# Altium integrated library TI Interface Touch Screen Controller.IntLib: 72 symbols (part 2 of 2)
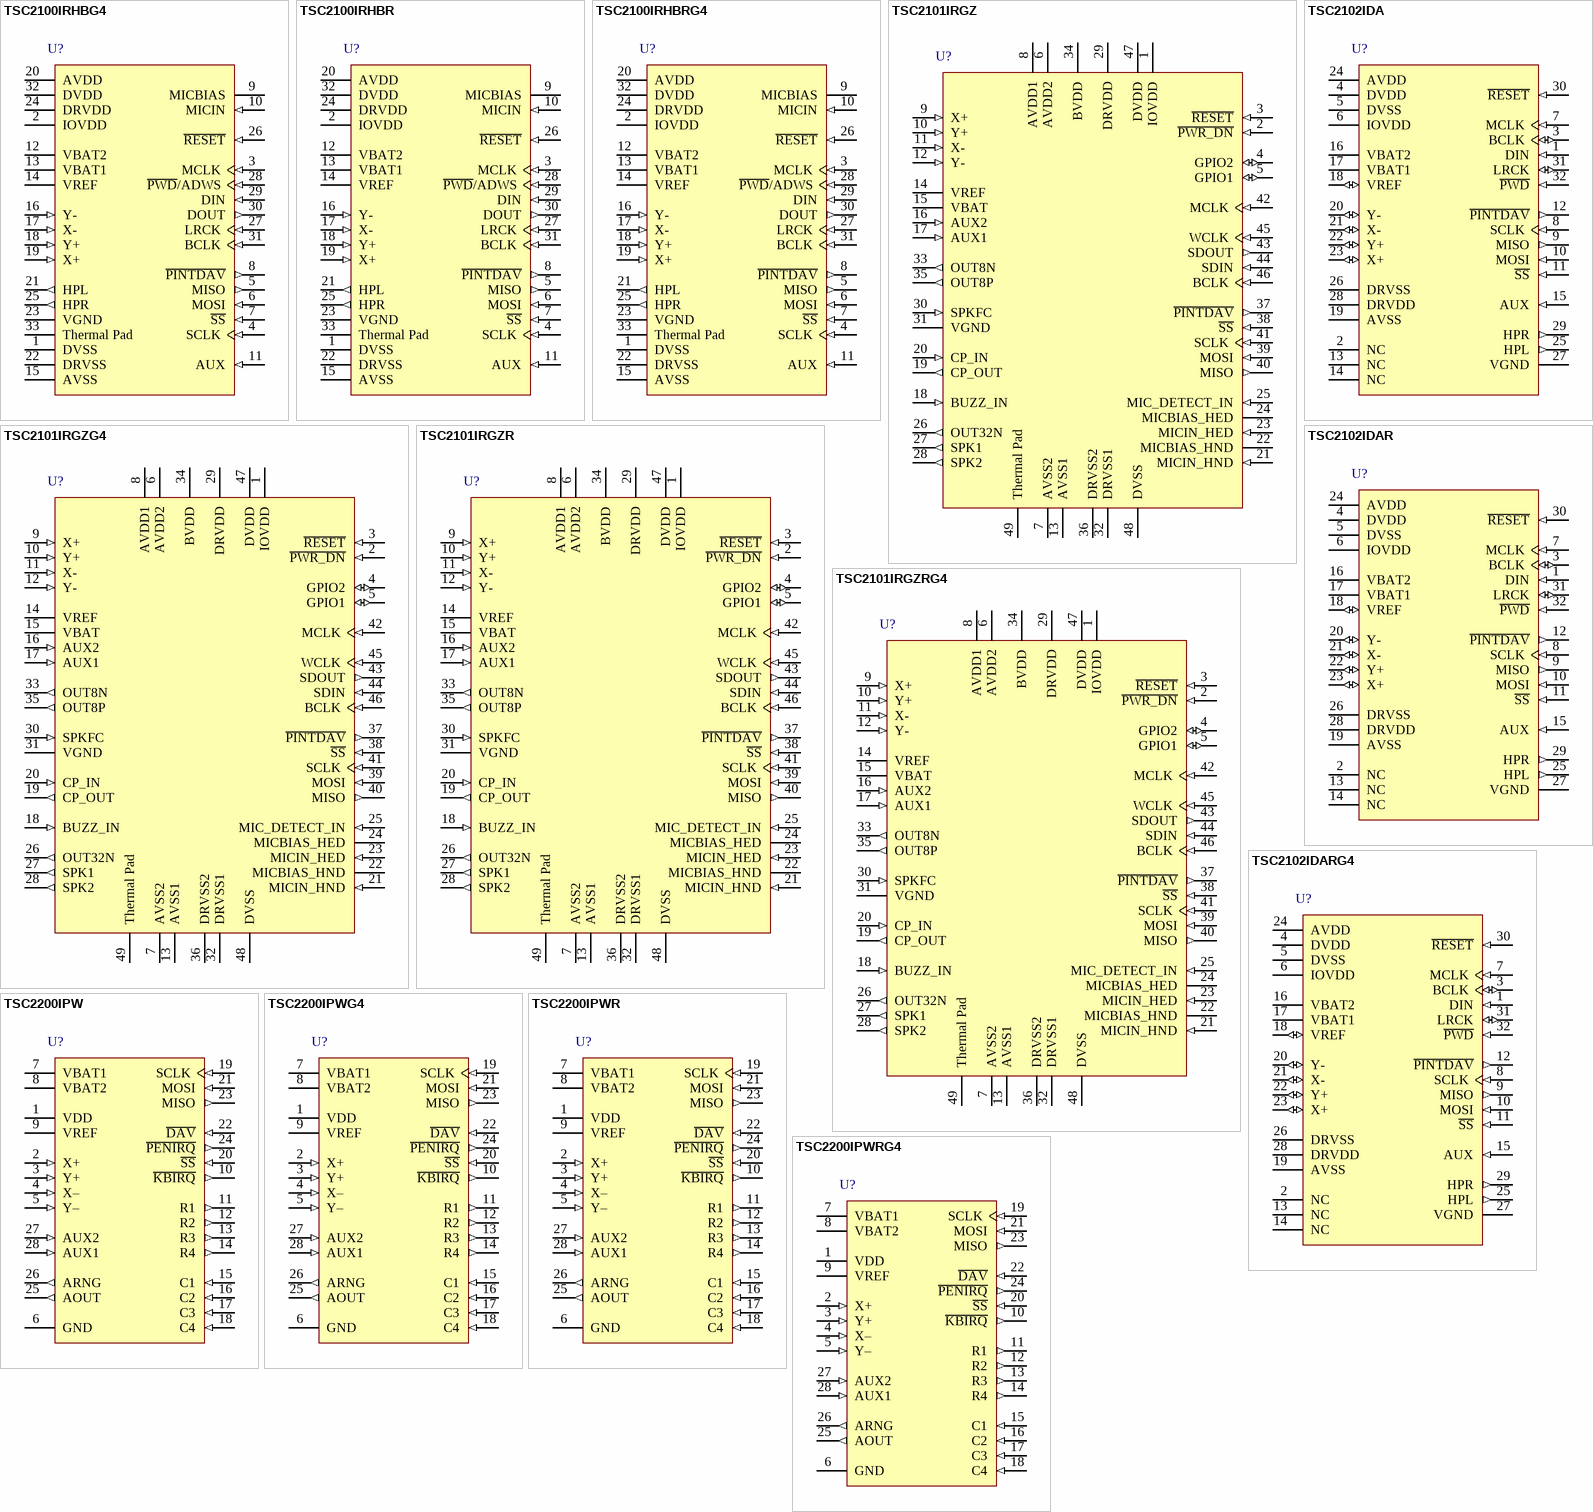
[diagram p5: symbols TSC2100IRHBG4 to TSC2200IPWRG4]

## TSC2101IRGZ
designator U?
Low-Power Highly Integrated High Performance Codec with Touch Screen Controller, 48-Pin QFN, Pb-Free; Published: 6-Oct-2005; LatestRevisionDate: 13-Apr-2006; LatestRevisionNote: IPC-7351 Footprint Added.; DatasheetVersion: May-2005; PackageVersion: Feb-2004; PackageReference: RGZ48; Publisher: Altium Limited; PackageDescription: 48-Pin Plastic Quad Flat No-Lead 0.5 mm Pitch; Code_JEDEC: MO-220; ComponentLink1Description: Manufacturer Link; ComponentLink1URL: http://focus.ti.com/docs/prod/folders/print/tsc2101.html; ComponentLink2Description: Datasheet; ComponentLink2URL: http://focus.ti.com/lit/ds/symlink/tcs2101.pdf
footprint RGZ48_N (QFN, 48-Leads, Body 7x7mm, Pitch 0.5mm, IPC Medium Density)
footprint RGZ48_L (QFN, 48-Leads, Body 7x7mm, Pitch 0.5mm, IPC High Density)
footprint RGZ48_M (QFN, 48-Leads, Body 7x7mm, Pitch 0.5mm, IPC Low Density)
pins: 1 IOVDD (power), 2 ~{PWR_DN} (in), 3 ~{RESET} (in), 4 GPIO2 (io), 5 GPIO1 (io), 6 AVDD2 (power), 7 AVSS2 (power), 8 AVDD1 (power), 9 X+ (in), 10 Y+ (in), 11 X- (in), 12 Y- (in), 13 AVSS1 (power), 14 VREF (power), 15 VBAT (power), 16 AUX2 (in), 17 AUX1 (in), 18 BUZZ_IN (in), 19 CP_OUT (out), 20 CP_IN (in), 21 MICIN_HND (in), 22 MICBIAS_HND (power), 23 MICIN_HED (in), 24 MICBIAS_HED (power), 25 MIC_DETECT_IN (in), 26 OUT32N (out), 27 SPK1 (out), 28 SPK2 (out), 29 DRVDD (power), 30 SPKFC (in), 31 VGND (power), 32 DRVSS1 (power), 33 OUT8N (out), 34 BVDD (power), 35 OUT8P (out), 36 DRVSS2 (power), 37 ~{PINTDAV} (out), 38 ~{SS} (in), 39 MOSI (in), 40 MISO (out), 41 SCLK (in), 42 MCLK (in), 43 SDOUT (out), 44 SDIN (in), 45 WCLK (in), 46 BCLK (in), 47 DVDD (power), 48 DVSS (power), 49 Thermal Pad (power)

## TSC2101IRGZG4
designator U?
Low-Power Highly Integrated High Performance Codec with Touch Screen Controller, 48-Pin QFN, Pb-Free; Published: 6-Oct-2005; LatestRevisionDate: 13-Apr-2006; LatestRevisionNote: IPC-7351 Footprint Added.; DatasheetVersion: May-2005; PackageVersion: Feb-2004; PackageReference: RGZ48; Publisher: Altium Limited; PackageDescription: 48-Pin Plastic Quad Flat No-Lead 0.5 mm Pitch; Code_JEDEC: MO-220; ComponentLink1Description: Manufacturer Link; ComponentLink1URL: http://focus.ti.com/docs/prod/folders/print/tsc2101.html; ComponentLink2Description: Datasheet; ComponentLink2URL: http://focus.ti.com/lit/ds/symlink/tcs2101.pdf
footprint RGZ48_N (QFN, 48-Leads, Body 7x7mm, Pitch 0.5mm, IPC Medium Density)
footprint RGZ48_L (QFN, 48-Leads, Body 7x7mm, Pitch 0.5mm, IPC High Density)
footprint RGZ48_M (QFN, 48-Leads, Body 7x7mm, Pitch 0.5mm, IPC Low Density)
pins: 1 IOVDD (power), 2 ~{PWR_DN} (in), 3 ~{RESET} (in), 4 GPIO2 (io), 5 GPIO1 (io), 6 AVDD2 (power), 7 AVSS2 (power), 8 AVDD1 (power), 9 X+ (in), 10 Y+ (in), 11 X- (in), 12 Y- (in), 13 AVSS1 (power), 14 VREF (power), 15 VBAT (power), 16 AUX2 (in), 17 AUX1 (in), 18 BUZZ_IN (in), 19 CP_OUT (out), 20 CP_IN (in), 21 MICIN_HND (in), 22 MICBIAS_HND (power), 23 MICIN_HED (in), 24 MICBIAS_HED (power), 25 MIC_DETECT_IN (in), 26 OUT32N (out), 27 SPK1 (out), 28 SPK2 (out), 29 DRVDD (power), 30 SPKFC (in), 31 VGND (power), 32 DRVSS1 (power), 33 OUT8N (out), 34 BVDD (power), 35 OUT8P (out), 36 DRVSS2 (power), 37 ~{PINTDAV} (out), 38 ~{SS} (in), 39 MOSI (in), 40 MISO (out), 41 SCLK (in), 42 MCLK (in), 43 SDOUT (out), 44 SDIN (in), 45 WCLK (in), 46 BCLK (in), 47 DVDD (power), 48 DVSS (power), 49 Thermal Pad (power)

## TSC2101IRGZR
designator U?
Low-Power Highly Integrated High Performance Codec with Touch Screen Controller, 48-Pin QFN, Pb-Free; Published: 6-Oct-2005; LatestRevisionDate: 13-Apr-2006; LatestRevisionNote: IPC-7351 Footprint Added.; DatasheetVersion: May-2005; PackageVersion: Feb-2004; PackageReference: RGZ48; Publisher: Altium Limited; PackageDescription: 48-Pin Plastic Quad Flat No-Lead 0.5 mm Pitch; Code_JEDEC: MO-220; ComponentLink1Description: Manufacturer Link; ComponentLink1URL: http://focus.ti.com/docs/prod/folders/print/tsc2101.html; ComponentLink2Description: Datasheet; ComponentLink2URL: http://focus.ti.com/lit/ds/symlink/tcs2101.pdf
footprint RGZ48_N (QFN, 48-Leads, Body 7x7mm, Pitch 0.5mm, IPC Medium Density)
footprint RGZ48_L (QFN, 48-Leads, Body 7x7mm, Pitch 0.5mm, IPC High Density)
footprint RGZ48_M (QFN, 48-Leads, Body 7x7mm, Pitch 0.5mm, IPC Low Density)
pins: 1 IOVDD (power), 2 ~{PWR_DN} (in), 3 ~{RESET} (in), 4 GPIO2 (io), 5 GPIO1 (io), 6 AVDD2 (power), 7 AVSS2 (power), 8 AVDD1 (power), 9 X+ (in), 10 Y+ (in), 11 X- (in), 12 Y- (in), 13 AVSS1 (power), 14 VREF (power), 15 VBAT (power), 16 AUX2 (in), 17 AUX1 (in), 18 BUZZ_IN (in), 19 CP_OUT (out), 20 CP_IN (in), 21 MICIN_HND (in), 22 MICBIAS_HND (power), 23 MICIN_HED (in), 24 MICBIAS_HED (power), 25 MIC_DETECT_IN (in), 26 OUT32N (out), 27 SPK1 (out), 28 SPK2 (out), 29 DRVDD (power), 30 SPKFC (in), 31 VGND (power), 32 DRVSS1 (power), 33 OUT8N (out), 34 BVDD (power), 35 OUT8P (out), 36 DRVSS2 (power), 37 ~{PINTDAV} (out), 38 ~{SS} (in), 39 MOSI (in), 40 MISO (out), 41 SCLK (in), 42 MCLK (in), 43 SDOUT (out), 44 SDIN (in), 45 WCLK (in), 46 BCLK (in), 47 DVDD (power), 48 DVSS (power), 49 Thermal Pad (power)

## TSC2101IRGZRG4
designator U?
Low-Power Highly Integrated High Performance Codec with Touch Screen Controller, 48-Pin QFN, Pb-Free; Published: 6-Oct-2005; LatestRevisionDate: 13-Apr-2006; LatestRevisionNote: IPC-7351 Footprint Added.; DatasheetVersion: May-2005; PackageVersion: Feb-2004; PackageReference: RGZ48; Publisher: Altium Limited; PackageDescription: 48-Pin Plastic Quad Flat No-Lead 0.5 mm Pitch; Code_JEDEC: MO-220; ComponentLink1Description: Manufacturer Link; ComponentLink1URL: http://focus.ti.com/docs/prod/folders/print/tsc2101.html; ComponentLink2Description: Datasheet; ComponentLink2URL: http://focus.ti.com/lit/ds/symlink/tcs2101.pdf
footprint RGZ48_N (QFN, 48-Leads, Body 7x7mm, Pitch 0.5mm, IPC Medium Density)
footprint RGZ48_L (QFN, 48-Leads, Body 7x7mm, Pitch 0.5mm, IPC High Density)
footprint RGZ48_M (QFN, 48-Leads, Body 7x7mm, Pitch 0.5mm, IPC Low Density)
pins: 1 IOVDD (power), 2 ~{PWR_DN} (in), 3 ~{RESET} (in), 4 GPIO2 (io), 5 GPIO1 (io), 6 AVDD2 (power), 7 AVSS2 (power), 8 AVDD1 (power), 9 X+ (in), 10 Y+ (in), 11 X- (in), 12 Y- (in), 13 AVSS1 (power), 14 VREF (power), 15 VBAT (power), 16 AUX2 (in), 17 AUX1 (in), 18 BUZZ_IN (in), 19 CP_OUT (out), 20 CP_IN (in), 21 MICIN_HND (in), 22 MICBIAS_HND (power), 23 MICIN_HED (in), 24 MICBIAS_HED (power), 25 MIC_DETECT_IN (in), 26 OUT32N (out), 27 SPK1 (out), 28 SPK2 (out), 29 DRVDD (power), 30 SPKFC (in), 31 VGND (power), 32 DRVSS1 (power), 33 OUT8N (out), 34 BVDD (power), 35 OUT8P (out), 36 DRVSS2 (power), 37 ~{PINTDAV} (out), 38 ~{SS} (in), 39 MOSI (in), 40 MISO (out), 41 SCLK (in), 42 MCLK (in), 43 SDOUT (out), 44 SDIN (in), 45 WCLK (in), 46 BCLK (in), 47 DVDD (power), 48 DVSS (power), 49 Thermal Pad (power)

## TSC2102IDA
designator U?
Highly Integrated Combination Resistive Touch Screen Controller with On-Chip Processor and Audio DAC, 32-Pin TSSOP, Pb-Free; Published: 6-Oct-2005; DatasheetVersion: Jun-2004; PackageVersion: Nov-1998; PackageReference: DA32; Publisher: Altium Limited; PackageDescription: Shrink Small Outline; 32 Leads; Body Width 6.2 mm; Pitch 0.65 mm; Code_JEDEC: MO-153; ComponentLink1Description: Manufacturer Link; ComponentLink1URL: http://focus.ti.com/docs/prod/folders/print/tsc2102.html; ComponentLink2Description: Datasheet; ComponentLink2URL: http://focus.ti.com/lit/ds/symlink/tcs2102.pdf
footprint DA32 (Shrink Small Outline; 32 Leads; Body Width 6.2 mm; Pitch 0.65 mm)
pins: 1 DIN (in), 2 NC, 3 BCLK (io), 4 DVDD (power), 5 DVSS (power), 6 IOVDD (power), 7 MCLK (in), 8 SCLK (in), 9 MISO (out), 10 MOSI (in), 11 ~{SS} (in), 12 ~{PINTDAV} (out), 13 NC, 14 NC, 15 AUX (in), 16 VBAT2 (power), 17 VBAT1 (power), 18 VREF (io), 19 AVSS (power), 20 Y- (io), 21 X- (io), 22 Y+ (io), 23 X+ (io), 24 AVDD (power), 25 HPL (out), 26 DRVSS (power), 27 VGND (power), 28 DRVDD (power), 29 HPR (out), 30 ~{RESET} (in), 31 LRCK (io), 32 ~{PWD} (in)

## TSC2102IDAR
designator U?
Highly Integrated Combination Resistive Touch Screen Controller with On-Chip Processor and Audio DAC, 32-Pin TSSOP, Pb-Free; Published: 6-Oct-2005; DatasheetVersion: Jun-2004; PackageVersion: Nov-1998; PackageReference: DA32; Publisher: Altium Limited; PackageDescription: Shrink Small Outline; 32 Leads; Body Width 6.2 mm; Pitch 0.65 mm; Code_JEDEC: MO-153; ComponentLink1Description: Manufacturer Link; ComponentLink1URL: http://focus.ti.com/docs/prod/folders/print/tsc2102.html; ComponentLink2Description: Datasheet; ComponentLink2URL: http://focus.ti.com/lit/ds/symlink/tcs2102.pdf
footprint DA32 (Shrink Small Outline; 32 Leads; Body Width 6.2 mm; Pitch 0.65 mm)
pins: 1 DIN (in), 2 NC, 3 BCLK (io), 4 DVDD (power), 5 DVSS (power), 6 IOVDD (power), 7 MCLK (in), 8 SCLK (in), 9 MISO (out), 10 MOSI (in), 11 ~{SS} (in), 12 ~{PINTDAV} (out), 13 NC, 14 NC, 15 AUX (in), 16 VBAT2 (power), 17 VBAT1 (power), 18 VREF (io), 19 AVSS (power), 20 Y- (io), 21 X- (io), 22 Y+ (io), 23 X+ (io), 24 AVDD (power), 25 HPL (out), 26 DRVSS (power), 27 VGND (power), 28 DRVDD (power), 29 HPR (out), 30 ~{RESET} (in), 31 LRCK (io), 32 ~{PWD} (in)

## TSC2102IDARG4
designator U?
Highly Integrated Combination Resistive Touch Screen Controller with On-Chip Processor and Audio DAC, 32-Pin TSSOP, Pb-Free; Published: 6-Oct-2005; DatasheetVersion: Jun-2004; PackageVersion: Nov-1998; PackageReference: DA32; Publisher: Altium Limited; PackageDescription: Shrink Small Outline; 32 Leads; Body Width 6.2 mm; Pitch 0.65 mm; Code_JEDEC: MO-153; ComponentLink1Description: Manufacturer Link; ComponentLink1URL: http://focus.ti.com/docs/prod/folders/print/tsc2102.html; ComponentLink2Description: Datasheet; ComponentLink2URL: http://focus.ti.com/lit/ds/symlink/tcs2102.pdf
footprint DA32 (Shrink Small Outline; 32 Leads; Body Width 6.2 mm; Pitch 0.65 mm)
pins: 1 DIN (in), 2 NC, 3 BCLK (io), 4 DVDD (power), 5 DVSS (power), 6 IOVDD (power), 7 MCLK (in), 8 SCLK (in), 9 MISO (out), 10 MOSI (in), 11 ~{SS} (in), 12 ~{PINTDAV} (out), 13 NC, 14 NC, 15 AUX (in), 16 VBAT2 (power), 17 VBAT1 (power), 18 VREF (io), 19 AVSS (power), 20 Y- (io), 21 X- (io), 22 Y+ (io), 23 X+ (io), 24 AVDD (power), 25 HPL (out), 26 DRVSS (power), 27 VGND (power), 28 DRVDD (power), 29 HPR (out), 30 ~{RESET} (in), 31 LRCK (io), 32 ~{PWD} (in)

## TSC2200IPW
designator U?
4-Wire Touch Screen Controller with Complete PDA Analog Interface circuit, 28-Pin TSSOP, Pb-Free; Published: 6-Oct-2005; DatasheetVersion: Apr-2004; PackageVersion: Feb-1999; PackageReference: PW028; Publisher: Altium Limited; PackageDescription: Shrink Small Outline; 28 Leads; Body Width 4.4 mm; Pitch 0.65 mm; ComponentLink1Description: Manufacturer Link; ComponentLink1URL: http://focus.ti.com/docs/prod/folders/print/tsc2200.html; ComponentLink2Description: Datasheet; ComponentLink2URL: http://focus.ti.com/lit/ds/symlink/tcs2200.pdf
footprint PW028 (Shrink Small Outline; 28 Leads; Body Width 4.4 mm; Pitch 0.65 mm)
pins: 1 VDD (power), 2 X+ (in), 3 Y+ (in), 4 X– (in), 5 Y– (in), 6 GND (power), 7 VBAT1 (power), 8 VBAT2 (power), 9 VREF (power), 10 ~{KBIRQ} (out), 11 R1 (out), 12 R2 (out), 13 R3 (out), 14 R4 (out), 15 C1 (in), 16 C2 (in), 17 C3 (in), 18 C4 (in), 19 SCLK (in), 20 ~{SS} (in), 21 MOSI (in), 22 ~{DAV} (in), 23 MISO (out), 24 ~{PENIRQ} (out), 25 AOUT (out), 26 ARNG (out), 27 AUX2 (in), 28 AUX1 (in)

## TSC2200IPWG4
designator U?
4-Wire Touch Screen Controller with Complete PDA Analog Interface circuit, 28-Pin TSSOP, Pb-Free; Published: 6-Oct-2005; DatasheetVersion: Apr-2004; PackageVersion: Feb-1999; PackageReference: PW028; Publisher: Altium Limited; PackageDescription: Shrink Small Outline; 28 Leads; Body Width 4.4 mm; Pitch 0.65 mm; ComponentLink1Description: Manufacturer Link; ComponentLink1URL: http://focus.ti.com/docs/prod/folders/print/tsc2200.html; ComponentLink2Description: Datasheet; ComponentLink2URL: http://focus.ti.com/lit/ds/symlink/tcs2200.pdf
footprint PW028 (Shrink Small Outline; 28 Leads; Body Width 4.4 mm; Pitch 0.65 mm)
pins: 1 VDD (power), 2 X+ (in), 3 Y+ (in), 4 X– (in), 5 Y– (in), 6 GND (power), 7 VBAT1 (power), 8 VBAT2 (power), 9 VREF (power), 10 ~{KBIRQ} (out), 11 R1 (out), 12 R2 (out), 13 R3 (out), 14 R4 (out), 15 C1 (in), 16 C2 (in), 17 C3 (in), 18 C4 (in), 19 SCLK (in), 20 ~{SS} (in), 21 MOSI (in), 22 ~{DAV} (in), 23 MISO (out), 24 ~{PENIRQ} (out), 25 AOUT (out), 26 ARNG (out), 27 AUX2 (in), 28 AUX1 (in)

## TSC2200IPWR
designator U?
4-Wire Touch Screen Controller with Complete PDA Analog Interface circuit, 28-Pin TSSOP, Pb-Free; Published: 6-Oct-2005; DatasheetVersion: Apr-2004; PackageVersion: Feb-1999; PackageReference: PW028; Publisher: Altium Limited; PackageDescription: Shrink Small Outline; 28 Leads; Body Width 4.4 mm; Pitch 0.65 mm; ComponentLink1Description: Manufacturer Link; ComponentLink1URL: http://focus.ti.com/docs/prod/folders/print/tsc2200.html; ComponentLink2Description: Datasheet; ComponentLink2URL: http://focus.ti.com/lit/ds/symlink/tcs2200.pdf
footprint PW028 (Shrink Small Outline; 28 Leads; Body Width 4.4 mm; Pitch 0.65 mm)
pins: 1 VDD (power), 2 X+ (in), 3 Y+ (in), 4 X– (in), 5 Y– (in), 6 GND (power), 7 VBAT1 (power), 8 VBAT2 (power), 9 VREF (power), 10 ~{KBIRQ} (out), 11 R1 (out), 12 R2 (out), 13 R3 (out), 14 R4 (out), 15 C1 (in), 16 C2 (in), 17 C3 (in), 18 C4 (in), 19 SCLK (in), 20 ~{SS} (in), 21 MOSI (in), 22 ~{DAV} (in), 23 MISO (out), 24 ~{PENIRQ} (out), 25 AOUT (out), 26 ARNG (out), 27 AUX2 (in), 28 AUX1 (in)

## TSC2200IPWRG4
designator U?
4-Wire Touch Screen Controller with Complete PDA Analog Interface circuit, 28-Pin TSSOP, Pb-Free; Published: 6-Oct-2005; DatasheetVersion: Apr-2004; PackageVersion: Feb-1999; PackageReference: PW028; Publisher: Altium Limited; PackageDescription: Shrink Small Outline; 28 Leads; Body Width 4.4 mm; Pitch 0.65 mm; ComponentLink1Description: Manufacturer Link; ComponentLink1URL: http://focus.ti.com/docs/prod/folders/print/tsc2200.html; ComponentLink2Description: Datasheet; ComponentLink2URL: http://focus.ti.com/lit/ds/symlink/tcs2200.pdf
footprint PW028 (Shrink Small Outline; 28 Leads; Body Width 4.4 mm; Pitch 0.65 mm)
pins: 1 VDD (power), 2 X+ (in), 3 Y+ (in), 4 X– (in), 5 Y– (in), 6 GND (power), 7 VBAT1 (power), 8 VBAT2 (power), 9 VREF (power), 10 ~{KBIRQ} (out), 11 R1 (out), 12 R2 (out), 13 R3 (out), 14 R4 (out), 15 C1 (in), 16 C2 (in), 17 C3 (in), 18 C4 (in), 19 SCLK (in), 20 ~{SS} (in), 21 MOSI (in), 22 ~{DAV} (in), 23 MISO (out), 24 ~{PENIRQ} (out), 25 AOUT (out), 26 ARNG (out), 27 AUX2 (in), 28 AUX1 (in)

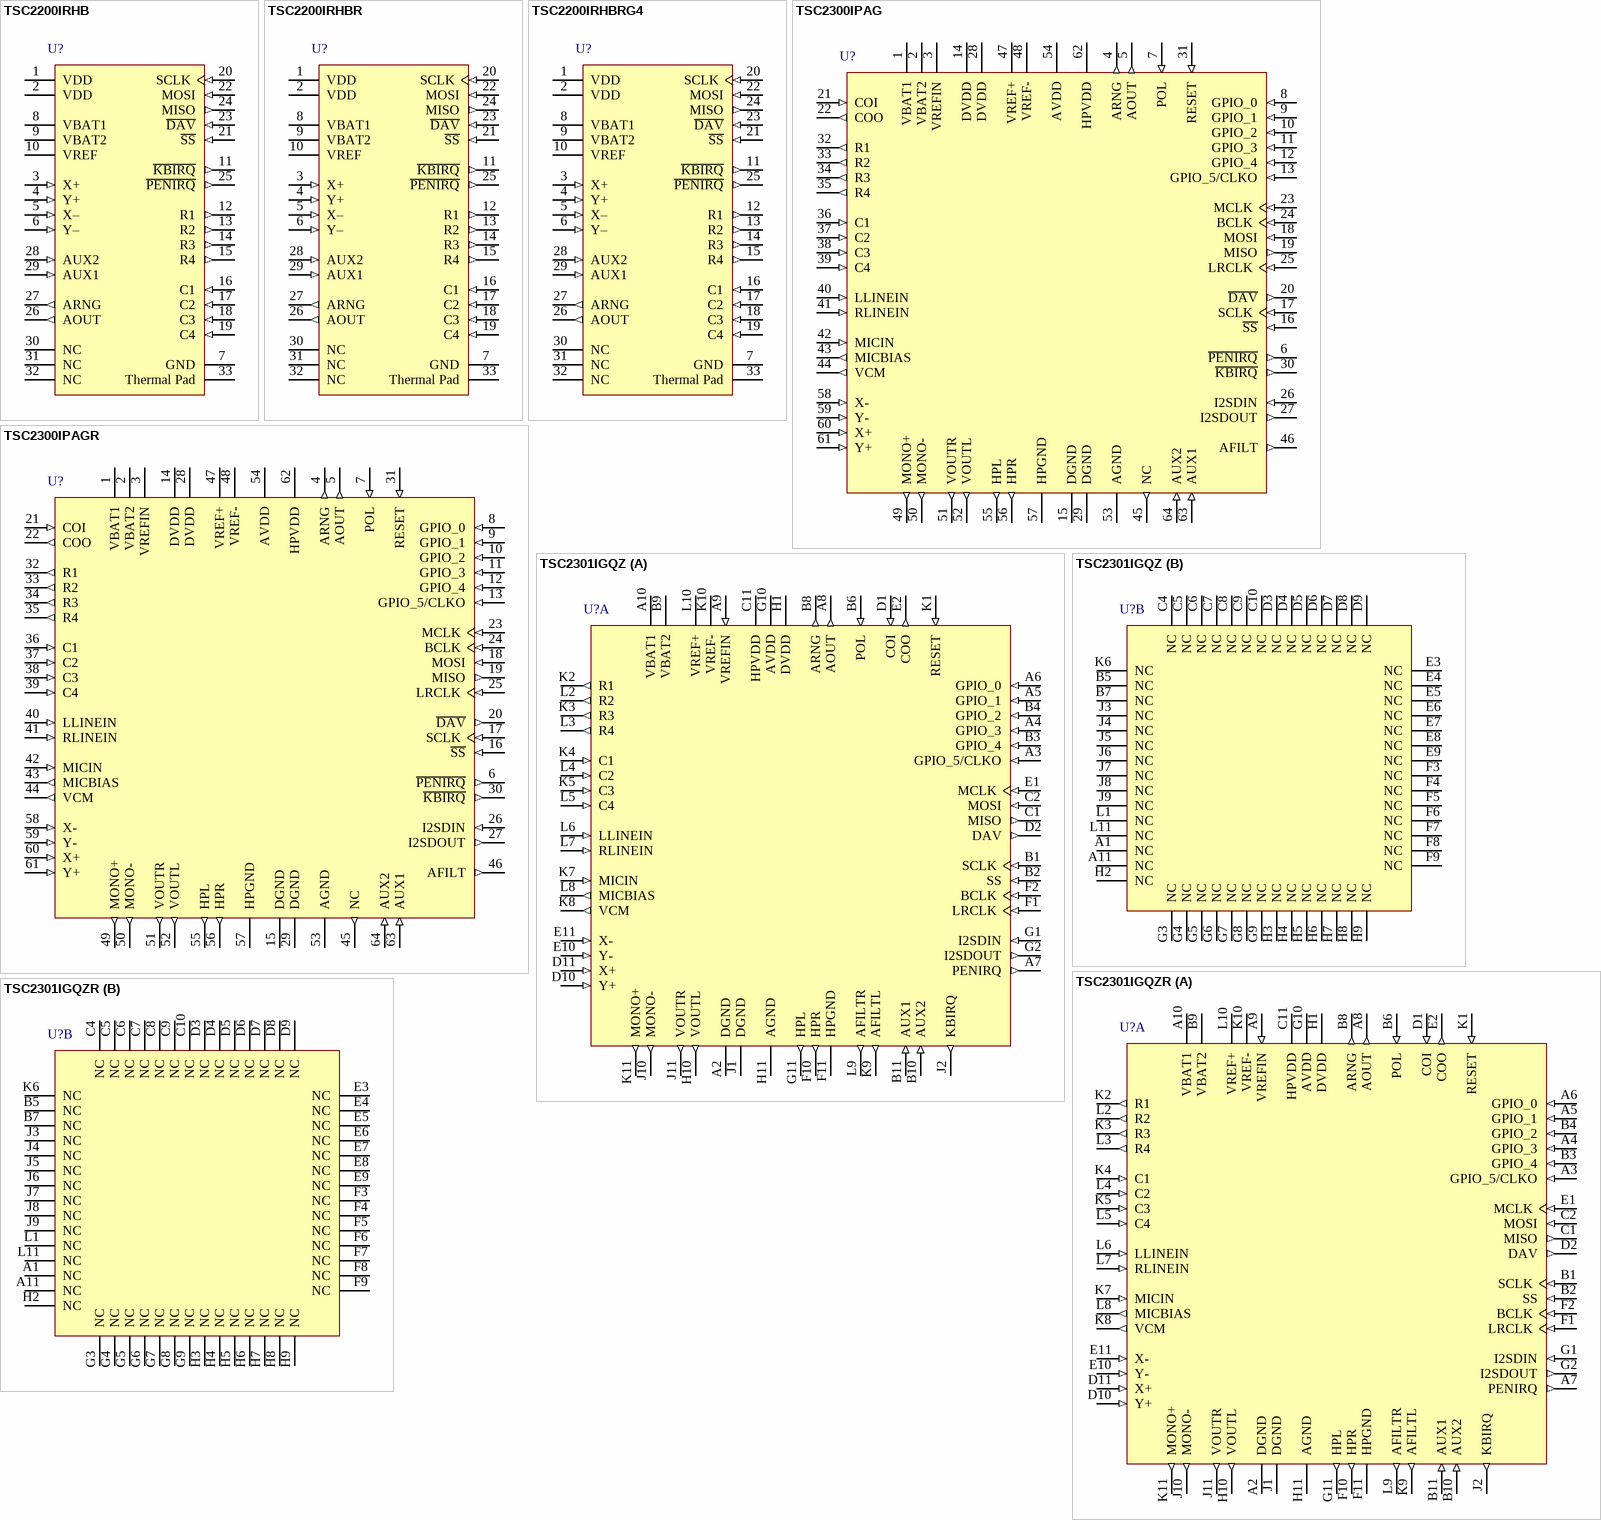
[diagram p3: symbols TSC2200IRHB to TSC2301IGQZR]

## TSC2200IRHB
designator U?
4-Wire Touch Screen Controller with Complete PDA Analog Interface circuit, 32-Pin QFN, Pb-Free; Published: 6-Oct-2005; LatestRevisionDate: 13-Apr-2006; LatestRevisionNote: IPC-7351 Footprint Added.; DatasheetVersion: Apr-2004; PackageVersion: 2004; PackageReference: RHB32; Publisher: Altium Limited; PackageDescription: 32-Pin Plastic Quad Flat No-Lead 0.5 mm Pitch; Code_JEDEC: MO-022; ComponentLink1Description: Manufacturer Link; ComponentLink1URL: http://focus.ti.com/docs/prod/folders/print/tsc2200.html; ComponentLink2Description: Datasheet; ComponentLink2URL: http://focus.ti.com/lit/ds/symlink/tcs2200.pdf
footprint RHB32_N (QFN, 32-Leads, Body 5x5mm, Pitch 0.5mm, IPC Medium Density)
footprint RHB32_L (QFN, 32-Leads, Body 5x5mm, Pitch 0.5mm, IPC High Density)
footprint RHB32_M (QFN, 32-Leads, Body 5x5mm, Pitch 0.5mm, IPC Low Density)
pins: 1 VDD (power), 2 VDD (power), 3 X+ (in), 4 Y+ (in), 5 X– (in), 6 Y– (in), 7 GND (power), 8 VBAT1 (power), 9 VBAT2 (power), 10 VREF (power), 11 ~{KBIRQ} (out), 12 R1 (out), 13 R2 (out), 14 R3 (out), 15 R4 (out), 16 C1 (in), 17 C2 (in), 18 C3 (in), 19 C4 (in), 20 SCLK (in), 21 ~{SS} (in), 22 MOSI (in), 23 ~{DAV} (in), 24 MISO (out), 25 ~{PENIRQ} (out), 26 AOUT (out), 27 ARNG (out), 28 AUX2 (in), 29 AUX1 (in), 30 NC, 31 NC, 32 NC, 33 Thermal Pad (power)

## TSC2200IRHBR
designator U?
4-Wire Touch Screen Controller with Complete PDA Analog Interface circuit, 32-Pin QFN, Pb-Free; Published: 6-Oct-2005; LatestRevisionDate: 13-Apr-2006; LatestRevisionNote: IPC-7351 Footprint Added.; DatasheetVersion: Apr-2004; PackageVersion: 2004; PackageReference: RHB32; Publisher: Altium Limited; PackageDescription: 32-Pin Plastic Quad Flat No-Lead 0.5 mm Pitch; Code_JEDEC: MO-022; ComponentLink1Description: Manufacturer Link; ComponentLink1URL: http://focus.ti.com/docs/prod/folders/print/tsc2200.html; ComponentLink2Description: Datasheet; ComponentLink2URL: http://focus.ti.com/lit/ds/symlink/tcs2200.pdf
footprint RHB32_N (QFN, 32-Leads, Body 5x5mm, Pitch 0.5mm, IPC Medium Density)
footprint RHB32_L (QFN, 32-Leads, Body 5x5mm, Pitch 0.5mm, IPC High Density)
footprint RHB32_M (QFN, 32-Leads, Body 5x5mm, Pitch 0.5mm, IPC Low Density)
pins: 1 VDD (power), 2 VDD (power), 3 X+ (in), 4 Y+ (in), 5 X– (in), 6 Y– (in), 7 GND (power), 8 VBAT1 (power), 9 VBAT2 (power), 10 VREF (power), 11 ~{KBIRQ} (out), 12 R1 (out), 13 R2 (out), 14 R3 (out), 15 R4 (out), 16 C1 (in), 17 C2 (in), 18 C3 (in), 19 C4 (in), 20 SCLK (in), 21 ~{SS} (in), 22 MOSI (in), 23 ~{DAV} (in), 24 MISO (out), 25 ~{PENIRQ} (out), 26 AOUT (out), 27 ARNG (out), 28 AUX2 (in), 29 AUX1 (in), 30 NC, 31 NC, 32 NC, 33 Thermal Pad (power)

## TSC2200IRHBRG4
designator U?
4-Wire Touch Screen Controller with Complete PDA Analog Interface circuit, 32-Pin QFN, Pb-Free; Published: 6-Oct-2005; LatestRevisionDate: 13-Apr-2006; LatestRevisionNote: IPC-7351 Footprint Added.; DatasheetVersion: Apr-2004; PackageVersion: 2004; PackageReference: RHB32; Publisher: Altium Limited; PackageDescription: 32-Pin Plastic Quad Flat No-Lead 0.5 mm Pitch; Code_JEDEC: MO-022; ComponentLink1Description: Manufacturer Link; ComponentLink1URL: http://focus.ti.com/docs/prod/folders/print/tsc2200.html; ComponentLink2Description: Datasheet; ComponentLink2URL: http://focus.ti.com/lit/ds/symlink/tcs2200.pdf
footprint RHB32_N (QFN, 32-Leads, Body 5x5mm, Pitch 0.5mm, IPC Medium Density)
footprint RHB32_L (QFN, 32-Leads, Body 5x5mm, Pitch 0.5mm, IPC High Density)
footprint RHB32_M (QFN, 32-Leads, Body 5x5mm, Pitch 0.5mm, IPC Low Density)
pins: 1 VDD (power), 2 VDD (power), 3 X+ (in), 4 Y+ (in), 5 X– (in), 6 Y– (in), 7 GND (power), 8 VBAT1 (power), 9 VBAT2 (power), 10 VREF (power), 11 ~{KBIRQ} (out), 12 R1 (out), 13 R2 (out), 14 R3 (out), 15 R4 (out), 16 C1 (in), 17 C2 (in), 18 C3 (in), 19 C4 (in), 20 SCLK (in), 21 ~{SS} (in), 22 MOSI (in), 23 ~{DAV} (in), 24 MISO (out), 25 ~{PENIRQ} (out), 26 AOUT (out), 27 ARNG (out), 28 AUX2 (in), 29 AUX1 (in), 30 NC, 31 NC, 32 NC, 33 Thermal Pad (power)

## TSC2300IPAG
designator U?
Highly Integrated PDA Analog Interface circuit, 64-Pin TQFP, Pb-Free; Published: 6-Oct-2005; LatestRevisionDate: 13-Apr-2006; LatestRevisionNote: IPC-7351 Footprint Added.; DatasheetVersion: Nov-2002; PackageVersion: Dec-1996; PackageReference: PAG64; Publisher: Altium Limited; PackageDescription: 64-Pin Thin Quad Flat Pack 0.5 mm Pitch; Code_JEDEC: MS-026; ComponentLink1Description: Manufacturer Link; ComponentLink1URL: http://focus.ti.com/docs/prod/folders/print/tsc2300.html; ComponentLink2Description: Datasheet; ComponentLink2URL: http://focus.ti.com/lit/ds/symlink/tsc2300.pdf
footprint PAG64_N (Thin QFP, 64-Leads, Body 10x10mm, Pitch 0.5mm, IPC Medium Density)
footprint PAG64_L (Thin QFP, 64-Leads, Body 10x10mm, Pitch 0.5mm, IPC High Density)
footprint PAG64_M (Thin QFP, 64-Leads, Body 10x10mm, Pitch 0.5mm, IPC Low Density)
pins: 1 VBAT1 (power), 2 VBAT2 (power), 3 VREFIN (power), 4 ARNG (out), 5 AOUT (out), 6 ~{PENIRQ} (out), 7 POL (in), 8 GPIO_0 (in), 9 GPIO_1 (in), 10 GPIO_2 (in), 11 GPIO_3 (in), 12 GPIO_4 (in), 13 GPIO_5/CLKO (in), 14 DVDD (power), 15 DGND (power), 16 ~{SS} (in), 17 SCLK (in), 18 MOSI (in), 19 MISO (out), 20 ~{DAV} (out), 21 COI (in), 22 COO (out), 23 MCLK (in), 24 BCLK (in), 25 LRCLK (in), 26 I2SDIN (in), 27 I2SDOUT (out), 28 DVDD (power), 29 DGND (power), 30 ~{KBIRQ} (out), 31 RESET (in), 32 R1 (out), 33 R2 (out), 34 R3 (out), 35 R4 (out), 36 C1 (in), 37 C2 (in), 38 C3 (in), 39 C4 (in), 40 LLINEIN (in), 41 RLINEIN (in), 42 MICIN (in), 43 MICBIAS (out), 44 VCM (out), 45 NC (out), 46 AFILT (out), 47 VREF+ (power), 48 VREF- (power), 49 MONO+ (out), 50 MONO- (out), 51 VOUTR (out), 52 VOUTL (out), 53 AGND (power), 54 AVDD (power), 55 HPL (out), 56 HPR (out), 57 HPGND (power), 58 X- (in), 59 Y- (in), 60 X+ (in), 61 Y+ (in), 62 HPVDD (power), 63 AUX1 (in), 64 AUX2 (in)

## TSC2300IPAGR
designator U?
Highly Integrated PDA Analog Interface circuit, 64-Pin TQFP, Pb-Free; Published: 6-Oct-2005; LatestRevisionDate: 13-Apr-2006; LatestRevisionNote: IPC-7351 Footprint Added.; DatasheetVersion: Nov-2002; PackageVersion: Dec-1996; PackageReference: PAG64; Publisher: Altium Limited; PackageDescription: 64-Pin Thin Quad Flat Pack 0.5 mm Pitch; Code_JEDEC: MS-026; ComponentLink1Description: Manufacturer Link; ComponentLink1URL: http://focus.ti.com/docs/prod/folders/print/tsc2300.html; ComponentLink2Description: Datasheet; ComponentLink2URL: http://focus.ti.com/lit/ds/symlink/tsc2300.pdf
footprint PAG64_N (Thin QFP, 64-Leads, Body 10x10mm, Pitch 0.5mm, IPC Medium Density)
footprint PAG64_L (Thin QFP, 64-Leads, Body 10x10mm, Pitch 0.5mm, IPC High Density)
footprint PAG64_M (Thin QFP, 64-Leads, Body 10x10mm, Pitch 0.5mm, IPC Low Density)
pins: 1 VBAT1 (power), 2 VBAT2 (power), 3 VREFIN (power), 4 ARNG (out), 5 AOUT (out), 6 ~{PENIRQ} (out), 7 POL (in), 8 GPIO_0 (in), 9 GPIO_1 (in), 10 GPIO_2 (in), 11 GPIO_3 (in), 12 GPIO_4 (in), 13 GPIO_5/CLKO (in), 14 DVDD (power), 15 DGND (power), 16 ~{SS} (in), 17 SCLK (in), 18 MOSI (in), 19 MISO (out), 20 ~{DAV} (out), 21 COI (in), 22 COO (out), 23 MCLK (in), 24 BCLK (in), 25 LRCLK (in), 26 I2SDIN (in), 27 I2SDOUT (out), 28 DVDD (power), 29 DGND (power), 30 ~{KBIRQ} (out), 31 RESET (in), 32 R1 (out), 33 R2 (out), 34 R3 (out), 35 R4 (out), 36 C1 (in), 37 C2 (in), 38 C3 (in), 39 C4 (in), 40 LLINEIN (in), 41 RLINEIN (in), 42 MICIN (in), 43 MICBIAS (out), 44 VCM (out), 45 NC (out), 46 AFILT (out), 47 VREF+ (power), 48 VREF- (power), 49 MONO+ (out), 50 MONO- (out), 51 VOUTR (out), 52 VOUTL (out), 53 AGND (power), 54 AVDD (power), 55 HPL (out), 56 HPR (out), 57 HPGND (power), 58 X- (in), 59 Y- (in), 60 X+ (in), 61 Y+ (in), 62 HPVDD (power), 63 AUX1 (in), 64 AUX2 (in)

## TSC2301IGQZ
designator U?
Programmable Touch Screen Controller with Stereo Audio Codec, 120-Pin PBGA; Published: 6-Oct-2005; LatestRevisionDate: 13-Apr-2006; LatestRevisionNote: IPC-7351 Footprint Added.; DatasheetVersion: Aug-2004; PackageVersion: Jun-2004; PackageReference: GQZ120; Publisher: Altium Limited; PackageDescription: 120-Ball Ball Grid Array 0.5 mm Pitch; Code_JEDEC: MO-225; ComponentLink1Description: Manufacturer Link; ComponentLink1URL: http://focus.ti.com/docs/prod/folders/print/tsc2301.html; ComponentLink2Description: Datasheet; ComponentLink2URL: http://focus.ti.com/lit/ds/symlink/tsc2301.pdf
footprint GQZ120 (BGA, 120-Leads, Body 6x6mm, Pitch 0.5mm)
part A pins: A2 DGND (power), A3 GPIO_5/CLKO (in), A4 GPIO_3 (in), A5 GPIO_1 (in), A6 GPIO_0 (in), A7 PENIRQ (out), A8 AOUT (out), A9 VREFIN (in), A10 VBAT1 (power), B1 SCLK (in), B2 SS (in), B3 GPIO_4 (in), B4 GPIO_2 (in), B6 POL (in), B8 ARNG (out), B9 VBAT2 (power), B10 AUX2 (in), B11 AUX1 (in), C1 MISO (out), C2 MOSI (in), C11 HPVDD (power), D1 COI (in), D2 DAV (out), D10 Y+ (in), D11 X+ (in), E1 MCLK (in), E2 COO (out), E10 Y- (in), E11 X- (in), F1 LRCLK (in), F2 BCLK (in), F10 HPR (out), F11 HPGND (power), G1 I2SDIN (in), G2 I2SDOUT (out), G10 AVDD (power), G11 HPL (out), H1 DVDD (power), H10 VOUTL (out), H11 AGND (power), J1 DGND (power), J2 KBIRQ (out), J10 MONO- (out), J11 VOUTR (out), K1 RESET (in), K2 R1 (out), K3 R3 (out), K4 C1 (in), K5 C3 (in), K7 MICIN (in), K8 VCM (out), K9 AFILTL (out), K10 VREF- (power), K11 MONO+ (out), L2 R2 (out), L3 R4 (out), L4 C2 (in), L5 C4 (in), L6 LLINEIN (in), L7 RLINEIN (in), L8 MICBIAS (out), L9 AFILTR (out), L10 VREF+ (power)
part B pins: A1 NC, A11 NC, B5 NC, B7 NC, C4 NC, C5 NC, C6 NC, C7 NC, C8 NC, C9 NC, C10 NC, D3 NC, D4 NC, D5 NC, D6 NC, D7 NC, D8 NC, D9 NC, E3 NC, E4 NC, E5 NC, E6 NC, E7 NC, E8 NC, E9 NC, F3 NC, F4 NC, F5 NC, F6 NC, F7 NC, F8 NC, F9 NC, G3 NC, G4 NC, G5 NC, G6 NC, G7 NC, G8 NC, G9 NC, H2 NC, H3 NC, H4 NC, H5 NC, H6 NC, H7 NC, H8 NC, H9 NC, J3 NC, J4 NC, J5 NC, J6 NC, J7 NC, J8 NC, J9 NC, K6 NC, L1 NC, L11 NC

## TSC2301IGQZR
designator U?
Programmable Touch Screen Controller with Stereo Audio Codec, 120-Pin PBGA; Published: 6-Oct-2005; LatestRevisionDate: 13-Apr-2006; LatestRevisionNote: IPC-7351 Footprint Added.; DatasheetVersion: Aug-2004; PackageVersion: Jun-2004; PackageReference: GQZ120; Publisher: Altium Limited; PackageDescription: 120-Ball Ball Grid Array 0.5 mm Pitch; Code_JEDEC: MO-225; ComponentLink1Description: Manufacturer Link; ComponentLink1URL: http://focus.ti.com/docs/prod/folders/print/tsc2301.html; ComponentLink2Description: Datasheet; ComponentLink2URL: http://focus.ti.com/lit/ds/symlink/tsc2301.pdf
footprint GQZ120 (BGA, 120-Leads, Body 6x6mm, Pitch 0.5mm)
part A pins: A2 DGND (power), A3 GPIO_5/CLKO (in), A4 GPIO_3 (in), A5 GPIO_1 (in), A6 GPIO_0 (in), A7 PENIRQ (out), A8 AOUT (out), A9 VREFIN (in), A10 VBAT1 (power), B1 SCLK (in), B2 SS (in), B3 GPIO_4 (in), B4 GPIO_2 (in), B6 POL (in), B8 ARNG (out), B9 VBAT2 (power), B10 AUX2 (in), B11 AUX1 (in), C1 MISO (out), C2 MOSI (in), C11 HPVDD (power), D1 COI (in), D2 DAV (out), D10 Y+ (in), D11 X+ (in), E1 MCLK (in), E2 COO (out), E10 Y- (in), E11 X- (in), F1 LRCLK (in), F2 BCLK (in), F10 HPR (out), F11 HPGND (power), G1 I2SDIN (in), G2 I2SDOUT (out), G10 AVDD (power), G11 HPL (out), H1 DVDD (power), H10 VOUTL (out), H11 AGND (power), J1 DGND (power), J2 KBIRQ (out), J10 MONO- (out), J11 VOUTR (out), K1 RESET (in), K2 R1 (out), K3 R3 (out), K4 C1 (in), K5 C3 (in), K7 MICIN (in), K8 VCM (out), K9 AFILTL (out), K10 VREF- (power), K11 MONO+ (out), L2 R2 (out), L3 R4 (out), L4 C2 (in), L5 C4 (in), L6 LLINEIN (in), L7 RLINEIN (in), L8 MICBIAS (out), L9 AFILTR (out), L10 VREF+ (power)
part B pins: A1 NC, A11 NC, B5 NC, B7 NC, C4 NC, C5 NC, C6 NC, C7 NC, C8 NC, C9 NC, C10 NC, D3 NC, D4 NC, D5 NC, D6 NC, D7 NC, D8 NC, D9 NC, E3 NC, E4 NC, E5 NC, E6 NC, E7 NC, E8 NC, E9 NC, F3 NC, F4 NC, F5 NC, F6 NC, F7 NC, F8 NC, F9 NC, G3 NC, G4 NC, G5 NC, G6 NC, G7 NC, G8 NC, G9 NC, H2 NC, H3 NC, H4 NC, H5 NC, H6 NC, H7 NC, H8 NC, H9 NC, J3 NC, J4 NC, J5 NC, J6 NC, J7 NC, J8 NC, J9 NC, K6 NC, L1 NC, L11 NC

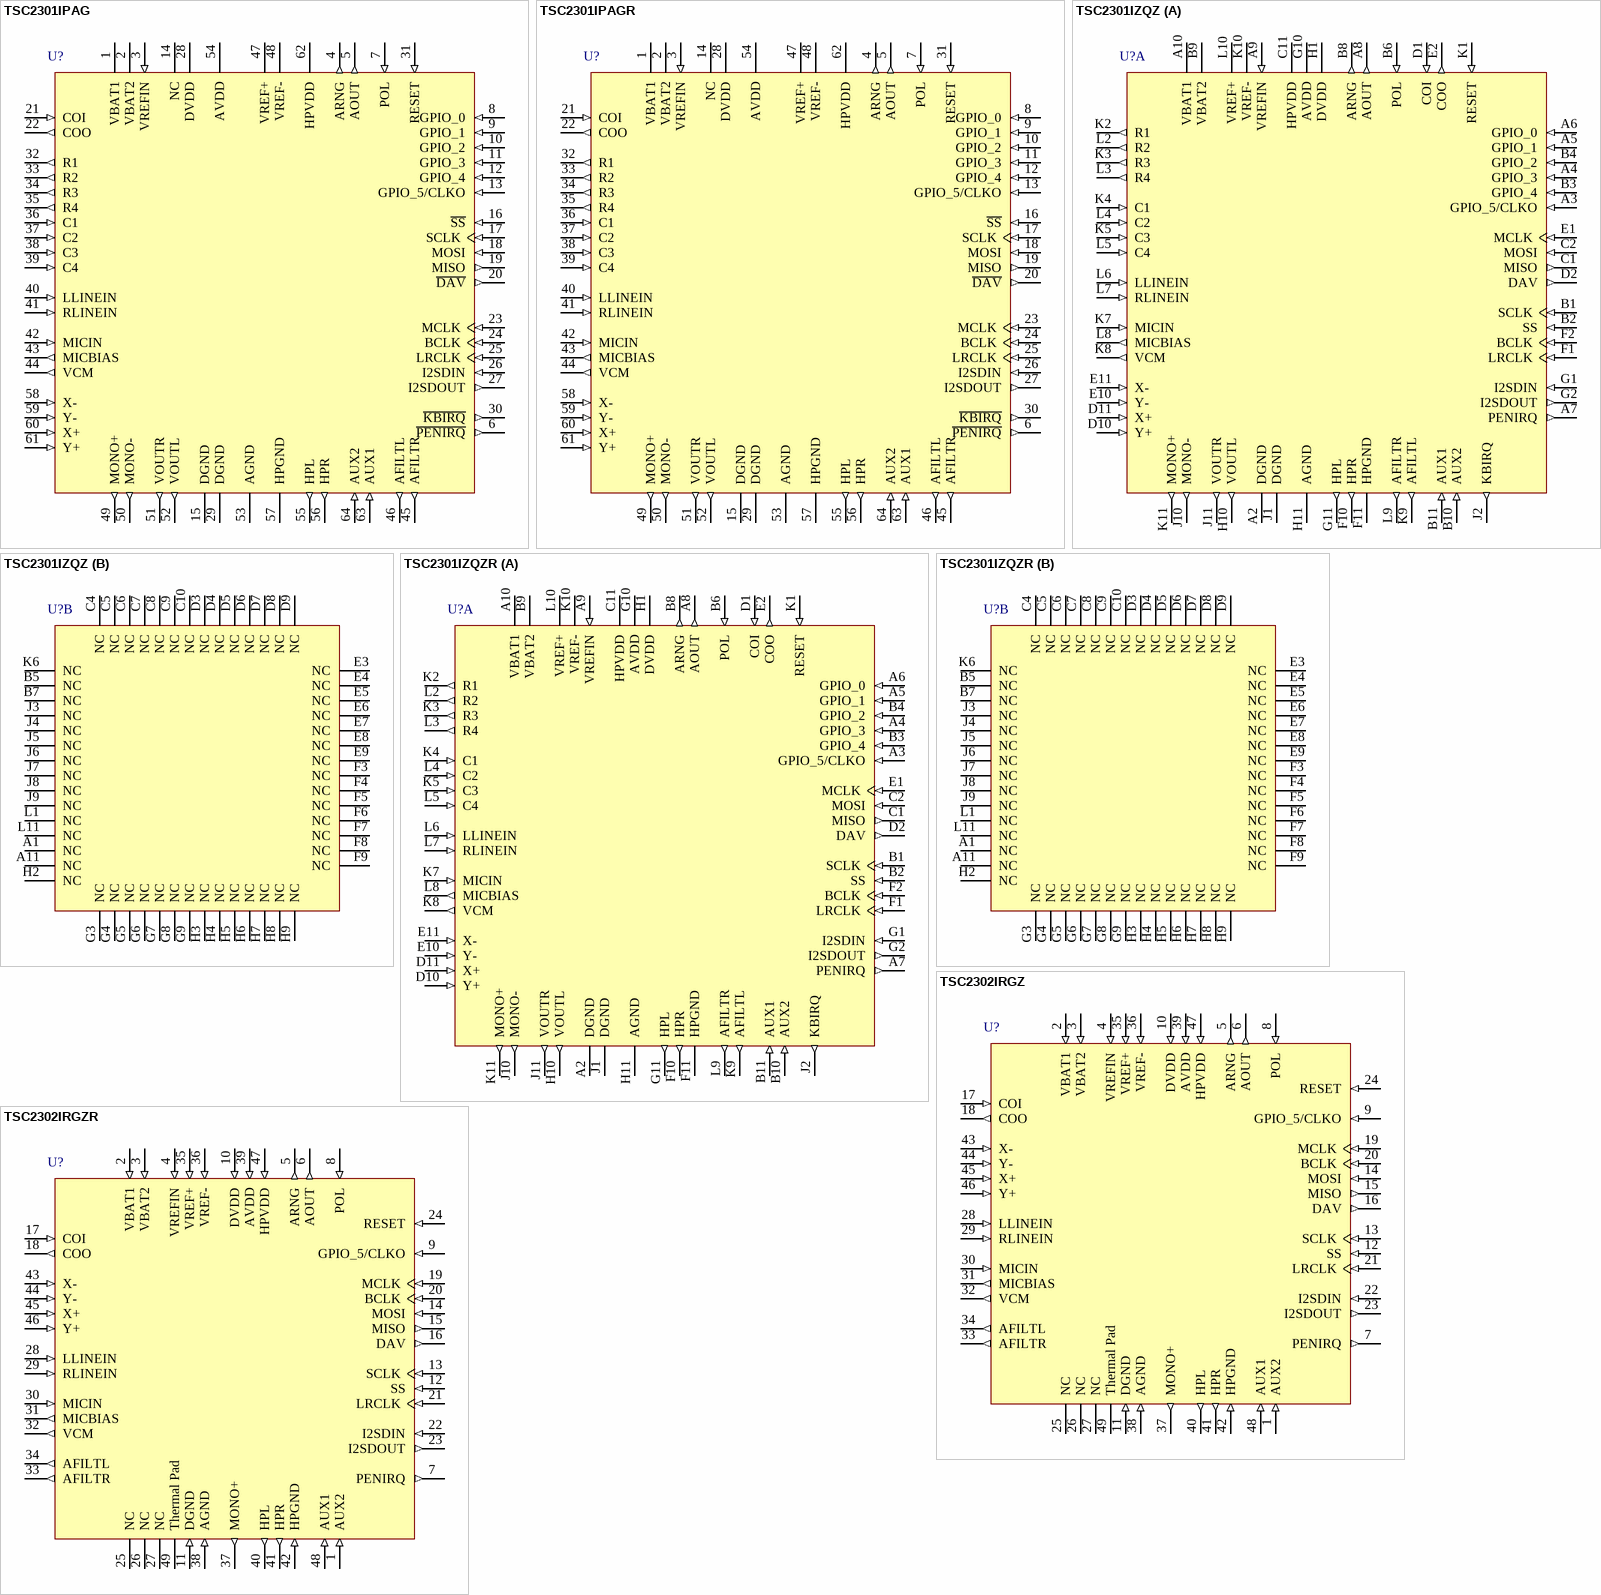
[diagram p4: symbols TSC2301IPAG to TSC2302IRGZR]

## TSC2301IPAG
designator U?
Programmable Touch Screen Controller with Stereo Audio Codec, 64-Pin TQFP; Published: 6-Oct-2005; LatestRevisionDate: 13-Apr-2006; LatestRevisionNote: IPC-7351 Footprint Added.; DatasheetVersion: Aug-2004; PackageVersion: Dec-1996; PackageReference: PAG64; Publisher: Altium Limited; PackageDescription: 64-Pin Thin Quad Flat Pack 0.5 mm Pitch; Code_JEDEC: MS-026; ComponentLink1Description: Manufacturer Link; ComponentLink1URL: http://focus.ti.com/docs/prod/folders/print/tsc2301.html; ComponentLink2Description: Datasheet; ComponentLink2URL: http://focus.ti.com/lit/ds/symlink/tsc2301.pdf
footprint PAG64_N (Thin QFP, 64-Leads, Body 10x10mm, Pitch 0.5mm, IPC Medium Density)
footprint PAG64_L (Thin QFP, 64-Leads, Body 10x10mm, Pitch 0.5mm, IPC High Density)
footprint PAG64_M (Thin QFP, 64-Leads, Body 10x10mm, Pitch 0.5mm, IPC Low Density)
pins: 1 VBAT1 (power), 2 VBAT2 (power), 3 VREFIN (in), 4 ARNG (out), 5 AOUT (out), 6 ~{PENIRQ} (out), 7 POL (in), 8 GPIO_0 (in), 9 GPIO_1 (in), 10 GPIO_2 (in), 11 GPIO_3 (in), 12 GPIO_4 (in), 13 GPIO_5/CLKO (in), 14 NC, 15 DGND (power), 16 ~{SS} (in), 17 SCLK (in), 18 MOSI (in), 19 MISO (out), 20 ~{DAV} (out), 21 COI (in), 22 COO (out), 23 MCLK (in), 24 BCLK (in), 25 LRCLK (in), 26 I2SDIN (in), 27 I2SDOUT (out), 28 DVDD (power), 29 DGND (power), 30 ~{KBIRQ} (out), 31 RESET (in), 32 R1 (out), 33 R2 (out), 34 R3 (out), 35 R4 (out), 36 C1 (in), 37 C2 (in), 38 C3 (in), 39 C4 (in), 40 LLINEIN (in), 41 RLINEIN (in), 42 MICIN (in), 43 MICBIAS (out), 44 VCM (out), 45 AFILTR (out), 46 AFILTL (out), 47 VREF+ (power), 48 VREF- (power), 49 MONO+ (out), 50 MONO- (out), 51 VOUTR (out), 52 VOUTL (out), 53 AGND (power), 54 AVDD (power), 55 HPL (out), 56 HPR (out), 57 HPGND (power), 58 X- (in), 59 Y- (in), 60 X+ (in), 61 Y+ (in), 62 HPVDD (power), 63 AUX1 (in), 64 AUX2 (in)

## TSC2301IPAGR
designator U?
Programmable Touch Screen Controller with Stereo Audio Codec, 64-Pin TQFP; Published: 6-Oct-2005; LatestRevisionDate: 13-Apr-2006; LatestRevisionNote: IPC-7351 Footprint Added.; DatasheetVersion: Aug-2004; PackageVersion: Dec-1996; PackageReference: PAG64; Publisher: Altium Limited; PackageDescription: 64-Pin Thin Quad Flat Pack 0.5 mm Pitch; Code_JEDEC: MS-026; ComponentLink1Description: Manufacturer Link; ComponentLink1URL: http://focus.ti.com/docs/prod/folders/print/tsc2301.html; ComponentLink2Description: Datasheet; ComponentLink2URL: http://focus.ti.com/lit/ds/symlink/tsc2301.pdf
footprint PAG64_N (Thin QFP, 64-Leads, Body 10x10mm, Pitch 0.5mm, IPC Medium Density)
footprint PAG64_L (Thin QFP, 64-Leads, Body 10x10mm, Pitch 0.5mm, IPC High Density)
footprint PAG64_M (Thin QFP, 64-Leads, Body 10x10mm, Pitch 0.5mm, IPC Low Density)
pins: 1 VBAT1 (power), 2 VBAT2 (power), 3 VREFIN (in), 4 ARNG (out), 5 AOUT (out), 6 ~{PENIRQ} (out), 7 POL (in), 8 GPIO_0 (in), 9 GPIO_1 (in), 10 GPIO_2 (in), 11 GPIO_3 (in), 12 GPIO_4 (in), 13 GPIO_5/CLKO (in), 14 NC, 15 DGND (power), 16 ~{SS} (in), 17 SCLK (in), 18 MOSI (in), 19 MISO (out), 20 ~{DAV} (out), 21 COI (in), 22 COO (out), 23 MCLK (in), 24 BCLK (in), 25 LRCLK (in), 26 I2SDIN (in), 27 I2SDOUT (out), 28 DVDD (power), 29 DGND (power), 30 ~{KBIRQ} (out), 31 RESET (in), 32 R1 (out), 33 R2 (out), 34 R3 (out), 35 R4 (out), 36 C1 (in), 37 C2 (in), 38 C3 (in), 39 C4 (in), 40 LLINEIN (in), 41 RLINEIN (in), 42 MICIN (in), 43 MICBIAS (out), 44 VCM (out), 45 AFILTR (out), 46 AFILTL (out), 47 VREF+ (power), 48 VREF- (power), 49 MONO+ (out), 50 MONO- (out), 51 VOUTR (out), 52 VOUTL (out), 53 AGND (power), 54 AVDD (power), 55 HPL (out), 56 HPR (out), 57 HPGND (power), 58 X- (in), 59 Y- (in), 60 X+ (in), 61 Y+ (in), 62 HPVDD (power), 63 AUX1 (in), 64 AUX2 (in)

## TSC2301IZQZ
designator U?
Programmable Touch Screen Controller with Stereo Audio Codec, 120-Pin PBGA, Pb-Free; Published: 6-Oct-2005; LatestRevisionDate: 13-Apr-2006; LatestRevisionNote: IPC-7351 Footprint Added.; DatasheetVersion: Aug-2004; PackageVersion: Jun-2004; PackageReference: ZQZ120; Publisher: Altium Limited; PackageDescription: 120-Ball Plastic Ball Grid Array 0.5 mm Pitch; Code_JEDEC: MO-225; ComponentLink1Description: Manufacturer Link; ComponentLink1URL: http://focus.ti.com/docs/prod/folders/print/tsc2301.html; ComponentLink2Description: Datasheet; ComponentLink2URL: http://focus.ti.com/lit/ds/symlink/tsc2301.pdf
footprint ZQZ120 (BGA, 120-Leads, Body 6x6mm, Pitch 0.5mm)
part A pins: A2 DGND (power), A3 GPIO_5/CLKO (in), A4 GPIO_3 (in), A5 GPIO_1 (in), A6 GPIO_0 (in), A7 PENIRQ (out), A8 AOUT (out), A9 VREFIN (in), A10 VBAT1 (power), B1 SCLK (in), B2 SS (in), B3 GPIO_4 (in), B4 GPIO_2 (in), B6 POL (in), B8 ARNG (out), B9 VBAT2 (power), B10 AUX2 (in), B11 AUX1 (in), C1 MISO (out), C2 MOSI (in), C11 HPVDD (power), D1 COI (in), D2 DAV (out), D10 Y+ (in), D11 X+ (in), E1 MCLK (in), E2 COO (out), E10 Y- (in), E11 X- (in), F1 LRCLK (in), F2 BCLK (in), F10 HPR (out), F11 HPGND (power), G1 I2SDIN (in), G2 I2SDOUT (out), G10 AVDD (power), G11 HPL (out), H1 DVDD (power), H10 VOUTL (out), H11 AGND (power), J1 DGND (power), J2 KBIRQ (out), J10 MONO- (out), J11 VOUTR (out), K1 RESET (in), K2 R1 (out), K3 R3 (out), K4 C1 (in), K5 C3 (in), K7 MICIN (in), K8 VCM (out), K9 AFILTL (out), K10 VREF- (power), K11 MONO+ (out), L2 R2 (out), L3 R4 (out), L4 C2 (in), L5 C4 (in), L6 LLINEIN (in), L7 RLINEIN (in), L8 MICBIAS (out), L9 AFILTR (out), L10 VREF+ (power)
part B pins: A1 NC, A11 NC, B5 NC, B7 NC, C4 NC, C5 NC, C6 NC, C7 NC, C8 NC, C9 NC, C10 NC, D3 NC, D4 NC, D5 NC, D6 NC, D7 NC, D8 NC, D9 NC, E3 NC, E4 NC, E5 NC, E6 NC, E7 NC, E8 NC, E9 NC, F3 NC, F4 NC, F5 NC, F6 NC, F7 NC, F8 NC, F9 NC, G3 NC, G4 NC, G5 NC, G6 NC, G7 NC, G8 NC, G9 NC, H2 NC, H3 NC, H4 NC, H5 NC, H6 NC, H7 NC, H8 NC, H9 NC, J3 NC, J4 NC, J5 NC, J6 NC, J7 NC, J8 NC, J9 NC, K6 NC, L1 NC, L11 NC

## TSC2301IZQZR
designator U?
Programmable Touch Screen Controller with Stereo Audio Codec, 120-Pin PBGA, Pb-Free; Published: 6-Oct-2005; LatestRevisionDate: 13-Apr-2006; LatestRevisionNote: IPC-7351 Footprint Added.; DatasheetVersion: Aug-2004; PackageVersion: Jun-2004; PackageReference: ZQZ120; Publisher: Altium Limited; PackageDescription: 120-Ball Plastic Ball Grid Array 0.5 mm Pitch; Code_JEDEC: MO-225; ComponentLink1Description: Manufacturer Link; ComponentLink1URL: http://focus.ti.com/docs/prod/folders/print/tsc2301.html; ComponentLink2Description: Datasheet; ComponentLink2URL: http://focus.ti.com/lit/ds/symlink/tsc2301.pdf
footprint ZQZ120 (BGA, 120-Leads, Body 6x6mm, Pitch 0.5mm)
part A pins: A2 DGND (power), A3 GPIO_5/CLKO (in), A4 GPIO_3 (in), A5 GPIO_1 (in), A6 GPIO_0 (in), A7 PENIRQ (out), A8 AOUT (out), A9 VREFIN (in), A10 VBAT1 (power), B1 SCLK (in), B2 SS (in), B3 GPIO_4 (in), B4 GPIO_2 (in), B6 POL (in), B8 ARNG (out), B9 VBAT2 (power), B10 AUX2 (in), B11 AUX1 (in), C1 MISO (out), C2 MOSI (in), C11 HPVDD (power), D1 COI (in), D2 DAV (out), D10 Y+ (in), D11 X+ (in), E1 MCLK (in), E2 COO (out), E10 Y- (in), E11 X- (in), F1 LRCLK (in), F2 BCLK (in), F10 HPR (out), F11 HPGND (power), G1 I2SDIN (in), G2 I2SDOUT (out), G10 AVDD (power), G11 HPL (out), H1 DVDD (power), H10 VOUTL (out), H11 AGND (power), J1 DGND (power), J2 KBIRQ (out), J10 MONO- (out), J11 VOUTR (out), K1 RESET (in), K2 R1 (out), K3 R3 (out), K4 C1 (in), K5 C3 (in), K7 MICIN (in), K8 VCM (out), K9 AFILTL (out), K10 VREF- (power), K11 MONO+ (out), L2 R2 (out), L3 R4 (out), L4 C2 (in), L5 C4 (in), L6 LLINEIN (in), L7 RLINEIN (in), L8 MICBIAS (out), L9 AFILTR (out), L10 VREF+ (power)
part B pins: A1 NC, A11 NC, B5 NC, B7 NC, C4 NC, C5 NC, C6 NC, C7 NC, C8 NC, C9 NC, C10 NC, D3 NC, D4 NC, D5 NC, D6 NC, D7 NC, D8 NC, D9 NC, E3 NC, E4 NC, E5 NC, E6 NC, E7 NC, E8 NC, E9 NC, F3 NC, F4 NC, F5 NC, F6 NC, F7 NC, F8 NC, F9 NC, G3 NC, G4 NC, G5 NC, G6 NC, G7 NC, G8 NC, G9 NC, H2 NC, H3 NC, H4 NC, H5 NC, H6 NC, H7 NC, H8 NC, H9 NC, J3 NC, J4 NC, J5 NC, J6 NC, J7 NC, J8 NC, J9 NC, K6 NC, L1 NC, L11 NC

## TSC2302IRGZ
designator U?
Programmable Touch Screen Controller with Stereo Audio Codec, 48-Pin QFN; Published: 6-Oct-2005; LatestRevisionDate: 13-Apr-2006; LatestRevisionNote: IPC-7351 Footprint Added.; DatasheetVersion: Jul-2003; PackageVersion: Feb-2004; PackageReference: RGZ48; Publisher: Altium Limited; PackageDescription: 48-Pin Plastic Quad Flat No-Lead 0.5 mm Pitch; Code_JEDEC: MO-220; ComponentLink1Description: Manufacturer Link; ComponentLink1URL: http://focus.ti.com/docs/prod/folders/print/tsc2302.html; ComponentLink2Description: Datasheet; ComponentLink2URL: http://focus.ti.com/lit/ds/symlink/tsc2302.pdf
footprint RGZ48_N (QFN, 48-Leads, Body 7x7mm, Pitch 0.5mm, IPC Medium Density)
footprint RGZ48_L (QFN, 48-Leads, Body 7x7mm, Pitch 0.5mm, IPC High Density)
footprint RGZ48_M (QFN, 48-Leads, Body 7x7mm, Pitch 0.5mm, IPC Low Density)
pins: 1 AUX2 (in), 2 VBAT1 (in), 3 VBAT2 (in), 4 VREFIN (in), 5 ARNG (out), 6 AOUT (out), 7 PENIRQ (out), 8 POL (in), 9 GPIO_5/CLKO (in), 10 DVDD (in), 11 DGND (in), 12 SS (in), 13 SCLK (in), 14 MOSI (in), 15 MISO (out), 16 DAV (out), 17 COI (in), 18 COO (out), 19 MCLK (in), 20 BCLK (in), 21 LRCLK (in), 22 I2SDIN (in), 23 I2SDOUT (out), 24 RESET (in), 25 NC, 26 NC, 27 NC, 28 LLINEIN (in), 29 RLINEIN (in), 30 MICIN (in), 31 MICBIAS (out), 32 VCM (out), 33 AFILTR (out), 34 AFILTL (out), 35 VREF+ (in), 36 VREF- (in), 37 MONO+ (out), 38 AGND (in), 39 AVDD (in), 40 HPL (out), 41 HPR (out), 42 HPGND (in), 43 X- (in), 44 Y- (in), 45 X+ (in), 46 Y+ (in), 47 HPVDD (in), 48 AUX1 (in), 49 Thermal Pad (power)

## TSC2302IRGZR
designator U?
Programmable Touch Screen Controller with Stereo Audio Codec, 48-Pin QFN; Published: 6-Oct-2005; LatestRevisionDate: 13-Apr-2006; LatestRevisionNote: IPC-7351 Footprint Added.; DatasheetVersion: Jul-2003; PackageVersion: Feb-2004; PackageReference: RGZ48; Publisher: Altium Limited; PackageDescription: 48-Pin Plastic Quad Flat No-Lead 0.5 mm Pitch; Code_JEDEC: MO-220; ComponentLink1Description: Manufacturer Link; ComponentLink1URL: http://focus.ti.com/docs/prod/folders/print/tsc2302.html; ComponentLink2Description: Datasheet; ComponentLink2URL: http://focus.ti.com/lit/ds/symlink/tsc2302.pdf
footprint RGZ48_N (QFN, 48-Leads, Body 7x7mm, Pitch 0.5mm, IPC Medium Density)
footprint RGZ48_L (QFN, 48-Leads, Body 7x7mm, Pitch 0.5mm, IPC High Density)
footprint RGZ48_M (QFN, 48-Leads, Body 7x7mm, Pitch 0.5mm, IPC Low Density)
pins: 1 AUX2 (in), 2 VBAT1 (in), 3 VBAT2 (in), 4 VREFIN (in), 5 ARNG (out), 6 AOUT (out), 7 PENIRQ (out), 8 POL (in), 9 GPIO_5/CLKO (in), 10 DVDD (in), 11 DGND (in), 12 SS (in), 13 SCLK (in), 14 MOSI (in), 15 MISO (out), 16 DAV (out), 17 COI (in), 18 COO (out), 19 MCLK (in), 20 BCLK (in), 21 LRCLK (in), 22 I2SDIN (in), 23 I2SDOUT (out), 24 RESET (in), 25 NC, 26 NC, 27 NC, 28 LLINEIN (in), 29 RLINEIN (in), 30 MICIN (in), 31 MICBIAS (out), 32 VCM (out), 33 AFILTR (out), 34 AFILTL (out), 35 VREF+ (in), 36 VREF- (in), 37 MONO+ (out), 38 AGND (in), 39 AVDD (in), 40 HPL (out), 41 HPR (out), 42 HPGND (in), 43 X- (in), 44 Y- (in), 45 X+ (in), 46 Y+ (in), 47 HPVDD (in), 48 AUX1 (in), 49 Thermal Pad (power)